# EAGLE library part ARDUCAM-M-2MP (library camera-module)
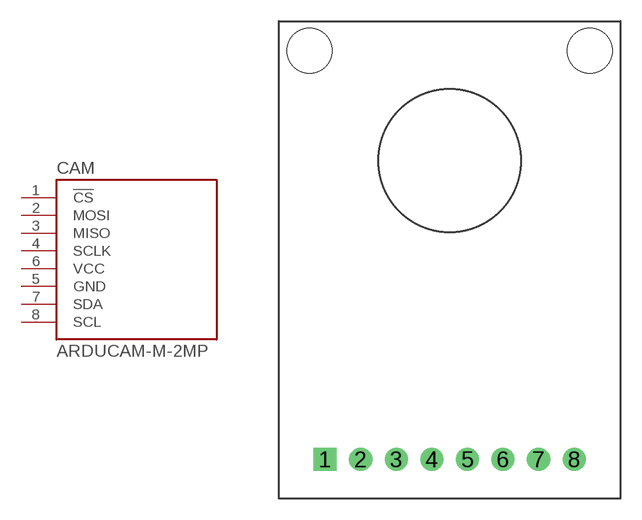
[diagram p1: symbol with the pads of ARDUCAM-M-2MP; footprint ARDUCAM-M-2MP]

Designator prefix CAM

## ARDUCAM-M-2MP  [ARDUCAM-M-2MP]
1  !CS!
2  MOSI
3  MISO
4  SCLK
5  GND
6  VCC
7  SDA
8  SCL

## Footprint ARDUCAM-M-2MP (pad centres in mm)
drill 1.1 square: 1 3.31,2.79
drill 1.1: 2 5.85,2.79; 3 8.39,2.79; 4 10.93,2.79; 5 13.47,2.79; 6 16.01,2.79; 7 18.55,2.79; 8 21.09,2.79
hole 3.2 at 2.2,31.97
hole 3.2 at 22.2,31.97